# Altium integrated library NSC Interface.IntLib: 1288 symbols (part 4 of 45)
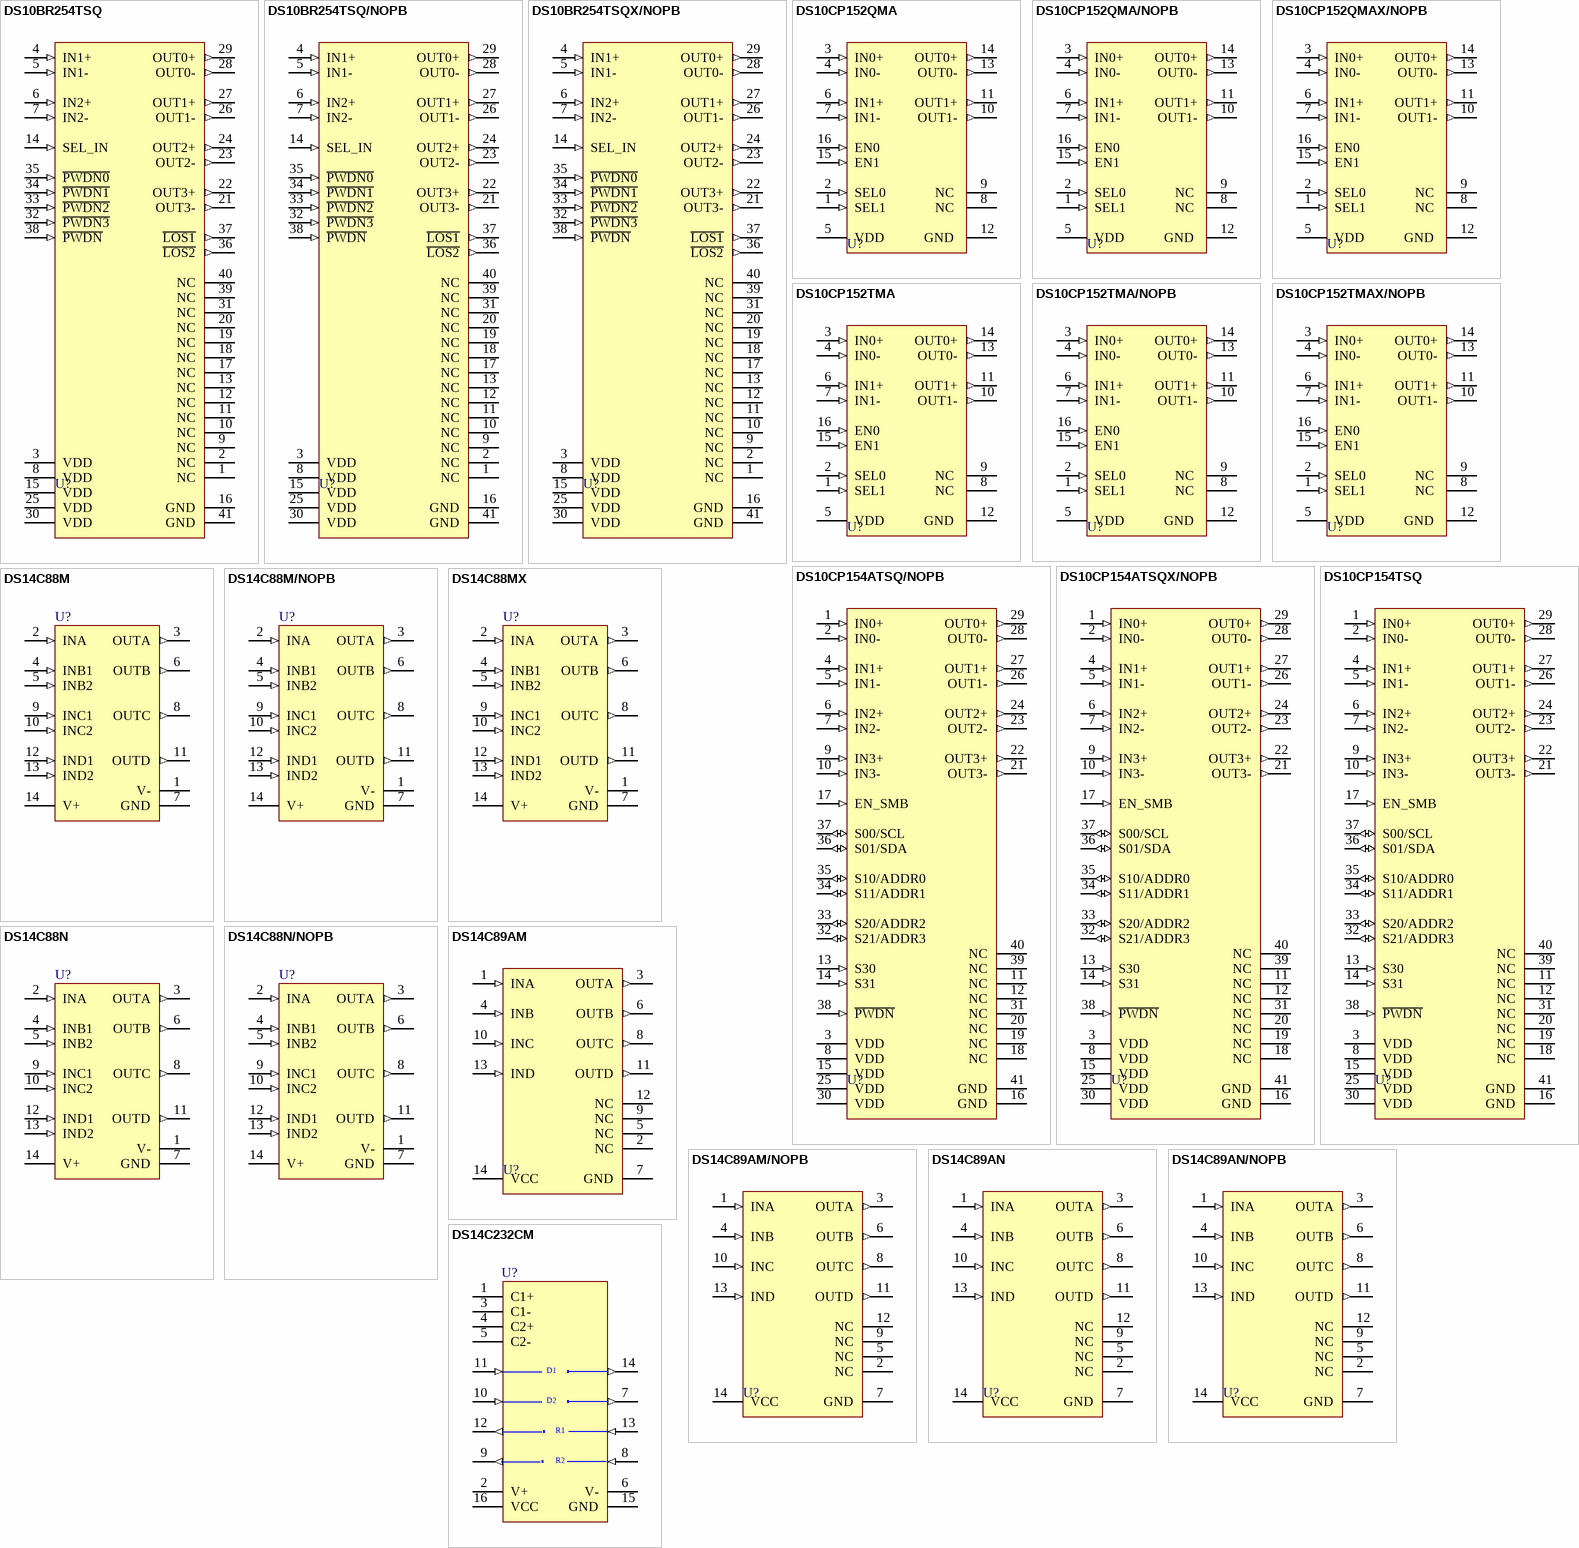
[diagram p115: symbols DS10BR254TSQ to DS14C232CM]

## DS10CP152TMA
designator U?
1.5 Gbps 2X2 LVDS Crosspoint Switch, 16-pin Narrow SOIC; PartNumber: DS10CP152TMA; Manufacturer: National Semiconductor; PackageTopMarking: NSUZXYTT*DS10CP152*TMA; PowerWise: N; CompType: Interface IC; Published: 4-Dec-2008; DatasheetVersion: Mar-2009; PackageVersion: revJ, Aug-1995; PackageReference: M16A; Publisher: Altium Limited; PackageDescription: Molded Package, SO, .150in Wide, 16 Lead; RoHS: Y; PinCount: 16; Code_JEDEC: MS-012-AC; Code_IPC: SOIC127P600-16; ComponentLink1Description: DS10CP152 Datasheet; ComponentLink1URL: http://www.national.com/ds/DS/DS10CP152.pdf; ComponentLink2Description: DS10CP152 Web Page; ComponentLink2URL: http://www.national.com/pf/DS/DS10CP152.html; ComponentLink3Description: M16A Package Page; ComponentLink3URL: http://www.national.com/packaging/folders/m16a.html
footprint M16A_N (SOIC, 16-Leads, Body 9.9x3.9mm, Pitch 1.27mm, IPC Medium Density)
footprint M16A_L (SOIC, 16-Leads, Body 9.9x3.9mm, Pitch 1.27mm, IPC High Density)
footprint M16A_M (SOIC, 16-Leads, Body 9.9x3.9mm, Pitch 1.27mm, IPC Low Density)
pins: 1 SEL1 (in), 2 SEL0 (in), 3 IN0+ (in), 4 IN0- (in), 5 VDD (power), 6 IN1+ (in), 7 IN1- (in), 8 NC , 9 NC , 10 OUT1- (out), 11 OUT1+ (out), 12 GND  (power), 13 OUT0- (out), 14 OUT0+ (out), 15 EN1 (in), 16 EN0 (in)

## DS10CP152TMA/NOPB
designator U?
1.5 Gbps 2X2 LVDS Crosspoint Switch, 16-pin Narrow SOIC, Pb-Free; PartNumber: DS10CP152TMA/NOPB; Manufacturer: National Semiconductor; PackageTopMarking: NSUZXYTTE#*DS10CP152*TMA; PowerWise: N; CompType: Interface IC; Published: 1-Mar-2010; DatasheetVersion: Mar-2009; PackageVersion: revJ, Aug-1995; PackageReference: M16A; Publisher: Altium Limited; PackageDescription: Molded Package, SO, .150in Wide, 16 Lead; Supplier 1: Digi-Key; Supplier Part Number 1: DS10CP152TMA-ND; RoHS: Y; PinCount: 16; Code_JEDEC: MS-012-AC; Code_IPC: SOIC127P600-16; ComponentLink1Description: DS10CP152 Datasheet; ComponentLink1URL: http://www.national.com/ds/DS/DS10CP152.pdf; ComponentLink2Description: DS10CP152 Web Page; ComponentLink2URL: http://www.national.com/pf/DS/DS10CP152.html; ComponentLink3Description: M16A Package Page; ComponentLink3URL: http://www.national.com/packaging/folders/m16a.html
footprint M16A_N (SOIC, 16-Leads, Body 9.9x3.9mm, Pitch 1.27mm, IPC Medium Density)
footprint M16A_L (SOIC, 16-Leads, Body 9.9x3.9mm, Pitch 1.27mm, IPC High Density)
footprint M16A_M (SOIC, 16-Leads, Body 9.9x3.9mm, Pitch 1.27mm, IPC Low Density)
pins: 1 SEL1 (in), 2 SEL0 (in), 3 IN0+ (in), 4 IN0- (in), 5 VDD (power), 6 IN1+ (in), 7 IN1- (in), 8 NC , 9 NC , 10 OUT1- (out), 11 OUT1+ (out), 12 GND  (power), 13 OUT0- (out), 14 OUT0+ (out), 15 EN1 (in), 16 EN0 (in)

## DS10CP152TMAX/NOPB
designator U?
1.5 Gbps 2X2 LVDS Crosspoint Switch, 16-pin Narrow SOIC, Pb-Free; PartNumber: DS10CP152TMAX/NOPB; Manufacturer: National Semiconductor; PackageTopMarking: NSUZXYTTE#*DS10CP152*TMA; PowerWise: N; CompType: Interface IC; Published: 1-Mar-2010; DatasheetVersion: Mar-2009; PackageVersion: revJ, Aug-1995; PackageReference: M16A; Publisher: Altium Limited; PackageDescription: Molded Package, SO, .150in Wide, 16 Lead; Supplier 1: Digi-Key; Supplier Part Number 1: DS10CP152TMAX-ND; RoHS: Y; PinCount: 16; Code_JEDEC: MS-012-AC; Code_IPC: SOIC127P600-16; ComponentLink1Description: DS10CP152 Datasheet; ComponentLink1URL: http://www.national.com/ds/DS/DS10CP152.pdf; ComponentLink2Description: DS10CP152 Web Page; ComponentLink2URL: http://www.national.com/pf/DS/DS10CP152.html; ComponentLink3Description: M16A Package Page; ComponentLink3URL: http://www.national.com/packaging/folders/m16a.html
footprint M16A_N (SOIC, 16-Leads, Body 9.9x3.9mm, Pitch 1.27mm, IPC Medium Density)
footprint M16A_L (SOIC, 16-Leads, Body 9.9x3.9mm, Pitch 1.27mm, IPC High Density)
footprint M16A_M (SOIC, 16-Leads, Body 9.9x3.9mm, Pitch 1.27mm, IPC Low Density)
pins: 1 SEL1 (in), 2 SEL0 (in), 3 IN0+ (in), 4 IN0- (in), 5 VDD (power), 6 IN1+ (in), 7 IN1- (in), 8 NC , 9 NC , 10 OUT1- (out), 11 OUT1+ (out), 12 GND  (power), 13 OUT0- (out), 14 OUT0+ (out), 15 EN1 (in), 16 EN0 (in)

## DS10CP154ATSQ/NOPB
designator U?
1.5 Gbps 4x4 LVDS Crosspoint Switch, 40-pin LLP, Pb-Free; PartNumber: DS10CP154ATSQ/NOPB; Manufacturer: National Semiconductor; PackageTopMarking: NS*UZXYTTE#*1CP154AS; PowerWise: Y; CompType: Interface IC; Published: 1-Mar-2010; DatasheetVersion: Aug-2008; PackageVersion: revB, Mar-2004; PackageReference: SQA40A; Publisher: Altium Limited; PackageDescription: LLP, Plastic, Quad, 6 x 6 x 0.8mm Body, 40 Lead, 0.5mm Pitch, No Pullback; Supplier 1: Digi-Key; Supplier Part Number 1: DS10CP154ATSQTR-ND; Supplier 2: Digi-Key; Supplier Part Number 2: DS10CP154ATSQCT-ND; Supplier 3: Digi-Key; Supplier Part Number 3: DS10CP154ATSQDKR-ND; RoHS: Y; PinCount: 40; ComponentLink1Description: DS10CP154A Datasheet; ComponentLink1URL: http://www.national.com/ds/DS/DS10CP154A.pdf; ComponentLink2Description: DS10CP154A Web Page; ComponentLink2URL: http://www.national.com/pf/DS/DS10CP154A.html; ComponentLink3Description: SQA40A Package Page; ComponentLink3URL: http://www.national.com/packaging/folders/sqa40a.html
footprint SQA40A (QFN, 40-Leads, Body 6x6mm, Pitch 0.5mm, NSC Recommended)
pins: 1 IN0+ (in), 2 IN0- (in), 3 VDD (power), 4 IN1+ (in), 5 IN1- (in), 6 IN2+ (in), 7 IN2- (in), 8 VDD (power), 9 IN3+ (in), 10 IN3- (in), 11 NC, 12 NC, 13 S30 (in), 14 S31 (in), 15 VDD (power), 16 GND (power), 17 EN_SMB (in), 18 NC, 19 NC, 20 NC, 21 OUT3- (out), 22 OUT3+ (out), 23 OUT2- (out), 24 OUT2+ (out), 25 VDD (power), 26 OUT1- (out), 27 OUT1+ (out), 28 OUT0- (out), 29 OUT0+ (out), 30 VDD (power), 31 NC, 32 S21/ADDR3 (io), 33 S20/ADDR2 (io), 34 S11/ADDR1 (io), 35 S10/ADDR0 (io), 36 S01/SDA (io), 37 S00/SCL (io), 38 ~{PWDN} (in), 39 NC, 40 NC, 41 GND (power)

## DS10CP154ATSQX/NOPB
designator U?
1.5 Gbps 4x4 LVDS Crosspoint Switch, 40-pin LLP, Pb-Free; PartNumber: DS10CP154ATSQX/NOPB; Manufacturer: National Semiconductor; PackageTopMarking: NS*UZXYTTE#*1CP154AS; PowerWise: Y; CompType: Interface IC; Published: 1-Mar-2010; DatasheetVersion: Aug-2008; PackageVersion: revB, Mar-2004; PackageReference: SQA40A; Publisher: Altium Limited; PackageDescription: LLP, Plastic, Quad, 6 x 6 x 0.8mm Body, 40 Lead, 0.5mm Pitch, No Pullback; Supplier 1: Digi-Key; Supplier Part Number 1: DS10CP154ATSQX-ND; RoHS: Y; PinCount: 40; ComponentLink1Description: DS10CP154A Datasheet; ComponentLink1URL: http://www.national.com/ds/DS/DS10CP154A.pdf; ComponentLink2Description: DS10CP154A Web Page; ComponentLink2URL: http://www.national.com/pf/DS/DS10CP154A.html; ComponentLink3Description: SQA40A Package Page; ComponentLink3URL: http://www.national.com/packaging/folders/sqa40a.html
footprint SQA40A (QFN, 40-Leads, Body 6x6mm, Pitch 0.5mm, NSC Recommended)
pins: 1 IN0+ (in), 2 IN0- (in), 3 VDD (power), 4 IN1+ (in), 5 IN1- (in), 6 IN2+ (in), 7 IN2- (in), 8 VDD (power), 9 IN3+ (in), 10 IN3- (in), 11 NC, 12 NC, 13 S30 (in), 14 S31 (in), 15 VDD (power), 16 GND (power), 17 EN_SMB (in), 18 NC, 19 NC, 20 NC, 21 OUT3- (out), 22 OUT3+ (out), 23 OUT2- (out), 24 OUT2+ (out), 25 VDD (power), 26 OUT1- (out), 27 OUT1+ (out), 28 OUT0- (out), 29 OUT0+ (out), 30 VDD (power), 31 NC, 32 S21/ADDR3 (io), 33 S20/ADDR2 (io), 34 S11/ADDR1 (io), 35 S10/ADDR0 (io), 36 S01/SDA (io), 37 S00/SCL (io), 38 ~{PWDN} (in), 39 NC, 40 NC, 41 GND (power)

## DS10CP154TSQ
designator U?
1.5 Gbps 4x4 LVDS Crosspoint Switch, 40-pin LLP; PartNumber: DS10CP154TSQ; Manufacturer: National Semiconductor; PackageTopMarking: NS*UZXYTT*1CP154SQ; PowerWise: Y; CompType: Interface IC; Published: 4-Dec-2008; DatasheetVersion: Nov-2007; PackageVersion: revB, Mar-2004; PackageReference: SQA40A; Publisher: Altium Limited; PackageDescription: LLP, Plastic, Quad, 6 x 6 x 0.8mm Body, 40 Lead, 0.5mm Pitch, No Pullback; RoHS: Y; PinCount: 40; ComponentLink1Description: DS10CP154 Web Page; ComponentLink1URL: http://www.national.com/pf/DS/DS10CP154.html; ComponentLink2Description: SQA40A Package Page; ComponentLink2URL: http://www.national.com/packaging/folders/sqa40a.html
footprint SQA40A (QFN, 40-Leads, Body 6x6mm, Pitch 0.5mm, NSC Recommended)
pins: 1 IN0+ (in), 2 IN0- (in), 3 VDD (power), 4 IN1+ (in), 5 IN1- (in), 6 IN2+ (in), 7 IN2- (in), 8 VDD (power), 9 IN3+ (in), 10 IN3- (in), 11 NC, 12 NC, 13 S30 (in), 14 S31 (in), 15 VDD (power), 16 GND (power), 17 EN_SMB (in), 18 NC, 19 NC, 20 NC, 21 OUT3- (out), 22 OUT3+ (out), 23 OUT2- (out), 24 OUT2+ (out), 25 VDD (power), 26 OUT1- (out), 27 OUT1+ (out), 28 OUT0- (out), 29 OUT0+ (out), 30 VDD (power), 31 NC, 32 S21/ADDR3 (io), 33 S20/ADDR2 (io), 34 S11/ADDR1 (io), 35 S10/ADDR0 (io), 36 S01/SDA (io), 37 S00/SCL (io), 38 ~{PWDN} (in), 39 NC, 40 NC, 41 GND (power)

## DS14C88M
designator U?
Quad CMOS Line Driver, 14-pin Narrow SOIC; PartNumber: DS14C88M; Manufacturer: National Semiconductor; PackageTopMarking: NSUZXYTTE#*DS14C88M; PowerWise: N; CompType: Interface IC; Published: 4-Dec-2008; DatasheetVersion: May-1998; PackageVersion: revJ, Jan-1996; PackageReference: M14A; Publisher: Altium Limited; PackageDescription: Molded Package S.O., .150in Wide, 14 Lead; Supplier 1: Farnell; Supplier Part Number 1: 9487824; RoHS: N; PinCount: 14; Code_JEDEC: MS-012AB; Code_IPC: SOIC127P600-14; ComponentLink1Description: DS14C88 Datasheet; ComponentLink1URL: http://www.national.com/ds/DS/DS14C88.pdf; ComponentLink2Description: DS14C88 Web Page; ComponentLink2URL: http://www.national.com/pf/DS/DS14C88.html; ComponentLink3Description: M14A Package Page; ComponentLink3URL: http://www.national.com/packaging/folders/m14a.html
footprint M14A_N (SOIC, 14-Leads, Body 8.6x3.9mm, Pitch 1.27mm, IPC Medium Density)
footprint M14A_L (SOIC, 14-Leads, Body 8.6x3.9mm, Pitch 1.27mm, IPC High Density)
footprint M14A_M (SOIC, 14-Leads, Body 8.6x3.9mm, Pitch 1.27mm, IPC Low Density)
pins: 1 V- (power), 2 INA (in), 3 OUTA (out), 4 INB1 (in), 5 INB2 (in), 6 OUTB (out), 7 GND (power), 8 OUTC (out), 9 INC1 (in), 10 INC2 (in), 11 OUTD (out), 12 IND1 (in), 13 IND2 (in), 14 V+ (power)

## DS14C88M/NOPB
designator U?
Quad CMOS Line Driver, 14-pin Narrow SOIC, Pb-Free; PartNumber: DS14C88M/NOPB; Manufacturer: National Semiconductor; PackageTopMarking: NSUZXYTTE#*DS14C88M; PowerWise: N; CompType: Interface IC; Published: 1-Mar-2010; DatasheetVersion: May-1998; PackageVersion: revJ, Jan-1996; PackageReference: M14A; Publisher: Altium Limited; PackageDescription: Molded Package S.O., .150in Wide, 14 Lead; Supplier 1: Digi-Key; Supplier Part Number 1: DS14C88M-ND; Supplier 2: Farnell; Supplier Part Number 2: 1246824; RoHS: Y; PinCount: 14; Code_JEDEC: MS-012AB; Code_IPC: SOIC127P600-14; ComponentLink1Description: DS14C88 Datasheet; ComponentLink1URL: http://www.national.com/ds/DS/DS14C88.pdf; ComponentLink2Description: DS14C88 Web Page; ComponentLink2URL: http://www.national.com/pf/DS/DS14C88.html; ComponentLink3Description: M14A Package Page; ComponentLink3URL: http://www.national.com/packaging/folders/m14a.html
footprint M14A_N (SOIC, 14-Leads, Body 8.6x3.9mm, Pitch 1.27mm, IPC Medium Density)
footprint M14A_L (SOIC, 14-Leads, Body 8.6x3.9mm, Pitch 1.27mm, IPC High Density)
footprint M14A_M (SOIC, 14-Leads, Body 8.6x3.9mm, Pitch 1.27mm, IPC Low Density)
pins: 1 V- (power), 2 INA (in), 3 OUTA (out), 4 INB1 (in), 5 INB2 (in), 6 OUTB (out), 7 GND (power), 8 OUTC (out), 9 INC1 (in), 10 INC2 (in), 11 OUTD (out), 12 IND1 (in), 13 IND2 (in), 14 V+ (power)

## DS14C88MX
designator U?
Quad CMOS Line Driver, 14-pin Narrow SOIC; PartNumber: DS14C88MX; Manufacturer: National Semiconductor; PackageTopMarking: NSUZXYTTE#*DS14C88M; PowerWise: N; CompType: Interface IC; Published: 1-Mar-2010; DatasheetVersion: May-1998; PackageVersion: revJ, Jan-1996; PackageReference: M14A; Publisher: Altium Limited; PackageDescription: Molded Package S.O., .150in Wide, 14 Lead; RoHS: N; PinCount: 14; Code_JEDEC: MS-012AB; Code_IPC: SOIC127P600-14; ComponentLink1Description: DS14C88 Datasheet; ComponentLink1URL: http://www.national.com/ds/DS/DS14C88.pdf; ComponentLink2Description: DS14C88 Web Page; ComponentLink2URL: http://www.national.com/pf/DS/DS14C88.html; ComponentLink3Description: M14A Package Page; ComponentLink3URL: http://www.national.com/packaging/folders/m14a.html
footprint M14A_N (SOIC, 14-Leads, Body 8.6x3.9mm, Pitch 1.27mm, IPC Medium Density)
footprint M14A_L (SOIC, 14-Leads, Body 8.6x3.9mm, Pitch 1.27mm, IPC High Density)
footprint M14A_M (SOIC, 14-Leads, Body 8.6x3.9mm, Pitch 1.27mm, IPC Low Density)
pins: 1 V- (power), 2 INA (in), 3 OUTA (out), 4 INB1 (in), 5 INB2 (in), 6 OUTB (out), 7 GND (power), 8 OUTC (out), 9 INC1 (in), 10 INC2 (in), 11 OUTD (out), 12 IND1 (in), 13 IND2 (in), 14 V+ (power)

## DS14C88N
designator U?
Quad CMOS Line Driver, 14-pin MDIP; PartNumber: DS14C88N; Manufacturer: National Semiconductor; PackageTopMarking: NSUZXYYTTE#*DS14C88N; PowerWise: N; CompType: Interface IC; Published: 4-Dec-2008; DatasheetVersion: May-1998; PackageVersion: revG, May-2006; PackageReference: N14A; Publisher: Altium Limited; PackageDescription: MDIP, .750 x .250 x.130in, 14 Lead, .100in Pitch; Supplier 1: Farnell; Supplier Part Number 1: 9487832; RoHS: N; PinCount: 14; Code_JEDEC: MS-001-AA; ComponentLink1Description: DS14C88 Datasheet; ComponentLink1URL: http://www.national.com/ds/DS/DS14C88.pdf; ComponentLink2Description: DS14C88 Web Page; ComponentLink2URL: http://www.national.com/pf/DS/DS14C88.html; ComponentLink3Description: N14A Package Page; ComponentLink3URL: http://www.national.com/packaging/folders/n14a.html
footprint N14A (DIP, 14-Leads, Row Spacing 7.62mm, Pitch 2.54mm, Body 19.56x6.35mm)
pins: 1 V- (power), 2 INA (in), 3 OUTA (out), 4 INB1 (in), 5 INB2 (in), 6 OUTB (out), 7 GND (power), 8 OUTC (out), 9 INC1 (in), 10 INC2 (in), 11 OUTD (out), 12 IND1 (in), 13 IND2 (in), 14 V+ (power)

## DS14C88N/NOPB
designator U?
Quad CMOS Line Driver, 14-pin MDIP, Pb-Free; PartNumber: DS14C88N/NOPB; Manufacturer: National Semiconductor; PackageTopMarking: NSUZXYYTTE#*DS14C88N; PowerWise: N; CompType: Interface IC; Published: 1-Mar-2010; DatasheetVersion: May-1998; PackageVersion: revG, May-2006; PackageReference: N14A; Publisher: Altium Limited; PackageDescription: MDIP, .750 x .250 x.130in, 14 Lead, .100in Pitch; Supplier 1: Digi-Key; Supplier Part Number 1: DS14C88N-ND; Supplier 2: Farnell; Supplier Part Number 2: 1184951; RoHS: Y; PinCount: 14; Code_JEDEC: MS-001-AA; ComponentLink1Description: DS14C88 Datasheet; ComponentLink1URL: http://www.national.com/ds/DS/DS14C88.pdf; ComponentLink2Description: DS14C88 Web Page; ComponentLink2URL: http://www.national.com/pf/DS/DS14C88.html; ComponentLink3Description: N14A Package Page; ComponentLink3URL: http://www.national.com/packaging/folders/n14a.html
footprint N14A (DIP, 14-Leads, Row Spacing 7.62mm, Pitch 2.54mm, Body 19.56x6.35mm)
pins: 1 V- (power), 2 INA (in), 3 OUTA (out), 4 INB1 (in), 5 INB2 (in), 6 OUTB (out), 7 GND (power), 8 OUTC (out), 9 INC1 (in), 10 INC2 (in), 11 OUTD (out), 12 IND1 (in), 13 IND2 (in), 14 V+ (power)

## DS14C89AM
designator U?
Quad CMOS Receiver, 14-pin Narrow SOIC; PartNumber: DS14C89AM; Manufacturer: National Semiconductor; PackageTopMarking: NSUZXYTTE#*DS14C89AM; PowerWise: N; CompType: Interface IC; Published: 4-Dec-2008; DatasheetVersion: May-1998; PackageVersion: revJ, Jan-1996; PackageReference: M14A; Publisher: Altium Limited; PackageDescription: Molded Package S.O., .150in Wide, 14 Lead; Supplier 1: Farnell; Supplier Part Number 1: 9487921; RoHS: N; PinCount: 14; Code_JEDEC: MS-012AB; Code_IPC: SOIC127P600-14; ComponentLink1Description: DS14C89A Datasheet; ComponentLink1URL: http://www.national.com/ds/DS/DS14C89A.pdf; ComponentLink2Description: DS14C89A Web Page; ComponentLink2URL: http://www.national.com/pf/DS/DS14C89A.html; ComponentLink3Description: M14A Package Page; ComponentLink3URL: http://www.national.com/packaging/folders/m14a.html
footprint M14A_N (SOIC, 14-Leads, Body 8.6x3.9mm, Pitch 1.27mm, IPC Medium Density)
footprint M14A_L (SOIC, 14-Leads, Body 8.6x3.9mm, Pitch 1.27mm, IPC High Density)
footprint M14A_M (SOIC, 14-Leads, Body 8.6x3.9mm, Pitch 1.27mm, IPC Low Density)
pins: 1 INA (in), 2 NC, 3 OUTA (out), 4 INB (in), 5 NC, 6 OUTB (out), 7 GND (power), 8 OUTC (out), 9 NC, 10 INC (in), 11 OUTD (out), 12 NC, 13 IND (in), 14 VCC (power)

## DS14C89AM/NOPB
designator U?
Quad CMOS Receiver, 14-pin Narrow SOIC, Pb-Free; PartNumber: DS14C89AM/NOPB; Manufacturer: National Semiconductor; PackageTopMarking: NSUZXYTTE#*DS14C89AM; PowerWise: N; CompType: Interface IC; Published: 1-Mar-2010; DatasheetVersion: May-1998; PackageVersion: revJ, Jan-1996; PackageReference: M14A; Publisher: Altium Limited; PackageDescription: Molded Package S.O., .150in Wide, 14 Lead; Supplier 1: Digi-Key; Supplier Part Number 1: DS14C89AM-ND; Supplier 2: Farnell; Supplier Part Number 2: 1246825; RoHS: Y; PinCount: 14; Code_JEDEC: MS-012AB; Code_IPC: SOIC127P600-14; ComponentLink1Description: DS14C89A Datasheet; ComponentLink1URL: http://www.national.com/ds/DS/DS14C89A.pdf; ComponentLink2Description: DS14C89A Web Page; ComponentLink2URL: http://www.national.com/pf/DS/DS14C89A.html; ComponentLink3Description: M14A Package Page; ComponentLink3URL: http://www.national.com/packaging/folders/m14a.html
footprint M14A_N (SOIC, 14-Leads, Body 8.6x3.9mm, Pitch 1.27mm, IPC Medium Density)
footprint M14A_L (SOIC, 14-Leads, Body 8.6x3.9mm, Pitch 1.27mm, IPC High Density)
footprint M14A_M (SOIC, 14-Leads, Body 8.6x3.9mm, Pitch 1.27mm, IPC Low Density)
pins: 1 INA (in), 2 NC, 3 OUTA (out), 4 INB (in), 5 NC, 6 OUTB (out), 7 GND (power), 8 OUTC (out), 9 NC, 10 INC (in), 11 OUTD (out), 12 NC, 13 IND (in), 14 VCC (power)

## DS14C89AN
designator U?
Quad CMOS Receiver, 14-pin MDIP; PartNumber: DS14C89AN; Manufacturer: National Semiconductor; PackageTopMarking: NSUZXYYTTE#*DS14C89AN; PowerWise: N; CompType: Interface IC; Published: 4-Dec-2008; DatasheetVersion: May-1998; PackageVersion: revG, May-2006; PackageReference: N14A; Publisher: Altium Limited; PackageDescription: MDIP, .750 x .250 x.130in, 14 Lead, .100in Pitch; Supplier 1: Farnell; Supplier Part Number 1: 9487930; RoHS: N; PinCount: 14; Code_JEDEC: MS-001-AA; ComponentLink1Description: DS14C89A Datasheet; ComponentLink1URL: http://www.national.com/ds/DS/DS14C89A.pdf; ComponentLink2Description: DS14C89A Web Page; ComponentLink2URL: http://www.national.com/pf/DS/DS14C89A.html; ComponentLink3Description: N14A Package Page; ComponentLink3URL: http://www.national.com/packaging/folders/n14a.html
footprint N14A (DIP, 14-Leads, Row Spacing 7.62mm, Pitch 2.54mm, Body 19.56x6.35mm)
pins: 1 INA (in), 2 NC, 3 OUTA (out), 4 INB (in), 5 NC, 6 OUTB (out), 7 GND (power), 8 OUTC (out), 9 NC, 10 INC (in), 11 OUTD (out), 12 NC, 13 IND (in), 14 VCC (power)

## DS14C89AN/NOPB
designator U?
Quad CMOS Receiver, 14-pin MDIP, Pb-Free; PartNumber: DS14C89AN/NOPB; Manufacturer: National Semiconductor; PackageTopMarking: NSUZXYYTTE#*DS14C89AN; PowerWise: N; CompType: Interface IC; Published: 1-Mar-2010; DatasheetVersion: May-1998; PackageVersion: revG, May-2006; PackageReference: N14A; Publisher: Altium Limited; PackageDescription: MDIP, .750 x .250 x.130in, 14 Lead, .100in Pitch; Supplier 1: Digi-Key; Supplier Part Number 1: DS14C89AN-ND; Supplier 2: Farnell; Supplier Part Number 2: 1184952; RoHS: Y; PinCount: 14; Code_JEDEC: MS-001-AA; ComponentLink1Description: DS14C89A Datasheet; ComponentLink1URL: http://www.national.com/ds/DS/DS14C89A.pdf; ComponentLink2Description: DS14C89A Web Page; ComponentLink2URL: http://www.national.com/pf/DS/DS14C89A.html; ComponentLink3Description: N14A Package Page; ComponentLink3URL: http://www.national.com/packaging/folders/n14a.html
footprint N14A (DIP, 14-Leads, Row Spacing 7.62mm, Pitch 2.54mm, Body 19.56x6.35mm)
pins: 1 INA (in), 2 NC, 3 OUTA (out), 4 INB (in), 5 NC, 6 OUTB (out), 7 GND (power), 8 OUTC (out), 9 NC, 10 INC (in), 11 OUTD (out), 12 NC, 13 IND (in), 14 VCC (power)

## DS14C232CM
designator U?
Low-Power +5V Powered TIA/EIA-232 Dual Driver/Receiver, 16-pin Narrow SOIC; PartNumber: DS14C232CM; Manufacturer: National Semiconductor; PackageTopMarking: NSUZXYTTE#*DS14C232CM; PowerWise: N; CompType: Interface IC; Published: 4-Dec-2008; DatasheetVersion: Oct-1999; PackageVersion: revJ, Aug-1995; PackageReference: M16A; Publisher: Altium Limited; PackageDescription: Molded Package, SO, .150in Wide, 16 Lead; Supplier 1: Farnell; Supplier Part Number 1: 9490124; RoHS: N; PinCount: 16; Code_JEDEC: MS-012-AC; Code_IPC: SOIC127P600-16; ComponentLink1Description: DS14C232 Datasheet; ComponentLink1URL: http://www.national.com/ds/DS/DS14C232.pdf; ComponentLink2Description: DS14C232 Web Page; ComponentLink2URL: http://www.national.com/pf/DS/DS14C232.html; ComponentLink3Description: M16A Package Page; ComponentLink3URL: http://www.national.com/packaging/folders/m16a.html
footprint M16A_N (SOIC, 16-Leads, Body 9.9x3.9mm, Pitch 1.27mm, IPC Medium Density)
footprint M16A_L (SOIC, 16-Leads, Body 9.9x3.9mm, Pitch 1.27mm, IPC High Density)
footprint M16A_M (SOIC, 16-Leads, Body 9.9x3.9mm, Pitch 1.27mm, IPC Low Density)
pins: 1 C1+, 2 V+ (power), 3 C1-, 4 C2+, 5 C2-, 6 V- (power), 7 DOUT (out), 8 RIN (in), 9 ROUT (out), 10 DIN (in), 11 DIN (in), 12 ROUT (out), 13 RIN (in), 14 DOUT (out), 15 GND (power), 16 VCC (power)
text: D1; D2; R1; R2

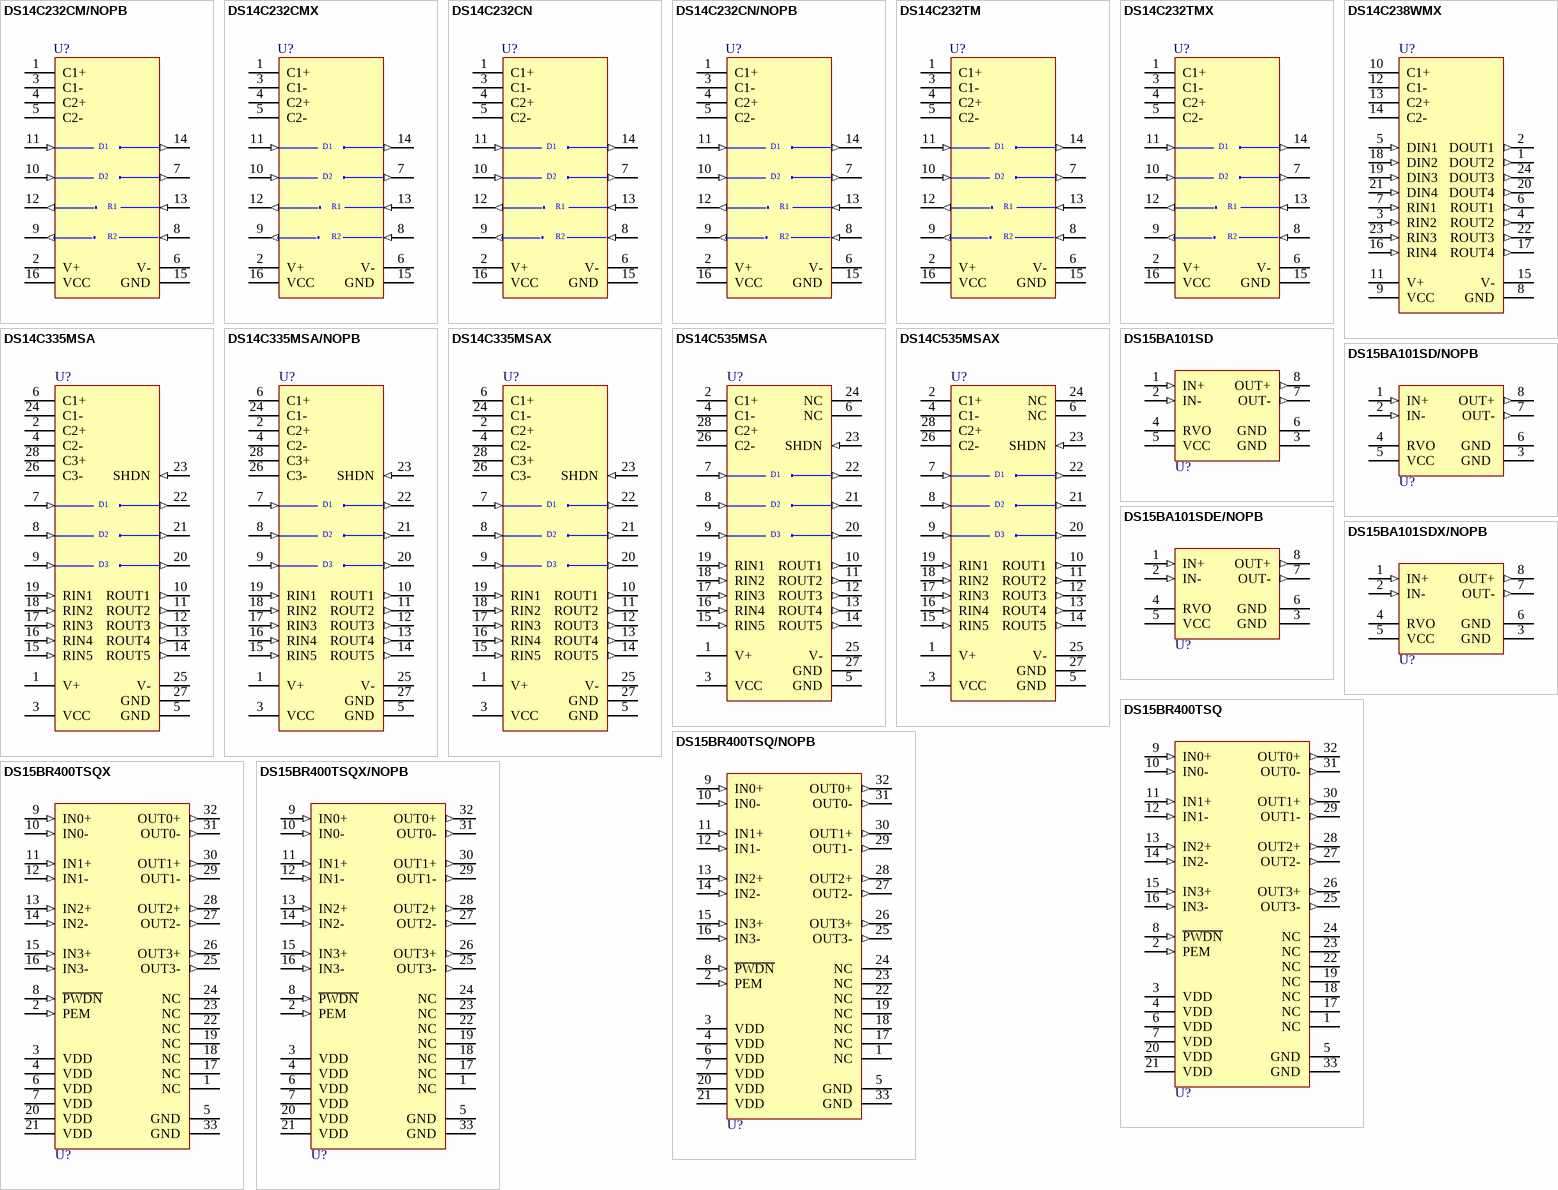
[diagram p13: symbols DS14C232CM/NOPB to DS15BR400TSQX/NOPB]

## DS14C232CM/NOPB
designator U?
Low Power +5V Powered TIA/EIA-232 Dual Driver/Receiver, 16-pin Narrow SOIC, Pb-Free; PartNumber: DS14C232CM/NOPB; Manufacturer: National Semiconductor; PackageTopMarking: NSUZXYTTE#*DS14C232CM; PowerWise: N; CompType: Interface IC; Published: 1-Mar-2010; DatasheetVersion: Oct-1999; PackageVersion: revJ, Aug-1995; PackageReference: M16A; Publisher: Altium Limited; PackageDescription: Molded Package, SO, .150in Wide, 16 Lead; Supplier 1: Digi-Key; Supplier Part Number 1: DS14C232CM-ND; Supplier 2: Farnell; Supplier Part Number 2: 1213575; RoHS: Y; PinCount: 16; Code_JEDEC: MS-012-AC; Code_IPC: SOIC127P600-16; ComponentLink1Description: DS14C232 Datasheet; ComponentLink1URL: http://www.national.com/ds/DS/DS14C232.pdf; ComponentLink2Description: DS14C232 Web Page; ComponentLink2URL: http://www.national.com/pf/DS/DS14C232.html; ComponentLink3Description: M16A Package Page; ComponentLink3URL: http://www.national.com/packaging/folders/m16a.html
footprint M16A_N (SOIC, 16-Leads, Body 9.9x3.9mm, Pitch 1.27mm, IPC Medium Density)
footprint M16A_L (SOIC, 16-Leads, Body 9.9x3.9mm, Pitch 1.27mm, IPC High Density)
footprint M16A_M (SOIC, 16-Leads, Body 9.9x3.9mm, Pitch 1.27mm, IPC Low Density)
pins: 1 C1+, 2 V+ (power), 3 C1-, 4 C2+, 5 C2-, 6 V- (power), 7 DOUT (out), 8 RIN (in), 9 ROUT (out), 10 DIN (in), 11 DIN (in), 12 ROUT (out), 13 RIN (in), 14 DOUT (out), 15 GND (power), 16 VCC (power)
text: D1; D2; R1; R2

## DS14C232CMX
designator U?
Low Power +5V Powered TIA/EIA-232 Dual Driver/Receiver, 16-pin Narrow SOIC; PartNumber: DS14C232CMX; Manufacturer: National Semiconductor; PackageTopMarking: NSUZXYTTE#*DS14C232CM; PowerWise: N; CompType: Interface IC; Published: 1-Mar-2010; DatasheetVersion: Oct-1999; PackageVersion: revJ, Aug-1995; PackageReference: M16A; Publisher: Altium Limited; PackageDescription: Molded Package, SO, .150in Wide, 16 Lead; RoHS: N; PinCount: 16; Code_JEDEC: MS-012-AC; Code_IPC: SOIC127P600-16; ComponentLink1Description: DS14C232 Datasheet; ComponentLink1URL: http://www.national.com/ds/DS/DS14C232.pdf; ComponentLink2Description: DS14C232 Web Page; ComponentLink2URL: http://www.national.com/pf/DS/DS14C232.html; ComponentLink3Description: M16A Package Page; ComponentLink3URL: http://www.national.com/packaging/folders/m16a.html
footprint M16A_N (SOIC, 16-Leads, Body 9.9x3.9mm, Pitch 1.27mm, IPC Medium Density)
footprint M16A_L (SOIC, 16-Leads, Body 9.9x3.9mm, Pitch 1.27mm, IPC High Density)
footprint M16A_M (SOIC, 16-Leads, Body 9.9x3.9mm, Pitch 1.27mm, IPC Low Density)
pins: 1 C1+, 2 V+ (power), 3 C1-, 4 C2+, 5 C2-, 6 V- (power), 7 DOUT (out), 8 RIN (in), 9 ROUT (out), 10 DIN (in), 11 DIN (in), 12 ROUT (out), 13 RIN (in), 14 DOUT (out), 15 GND (power), 16 VCC (power)
text: D1; D2; R1; R2

## DS14C232CN
designator U?
Low-Power +5V Powered TIA/EIA-232 Dual Driver/Receiver, 16-pin MDIP; PartNumber: DS14C232CN; Manufacturer: National Semiconductor; PackageTopMarking: NSUZXYYTTE#*DS14C232CN; PowerWise: N; CompType: Interface IC; Published: 4-Dec-2008; DatasheetVersion: Oct-1999; PackageVersion: revG, May-2006; PackageReference: N16E; Publisher: Altium Limited; PackageDescription: MDIP, .750 x .250 x .130in, 16 Lead, .100in Pitch; Supplier 1: Farnell; Supplier Part Number 1: 9490116; RoHS: N; PinCount: 16; Code_JEDEC: MS-001-BB; ComponentLink1Description: DS14C232 Datasheet; ComponentLink1URL: http://www.national.com/ds/DS/DS14C232.pdf; ComponentLink2Description: DS14C232 Web Page; ComponentLink2URL: http://www.national.com/pf/DS/DS14C232.html; ComponentLink3Description: N16E Package Page; ComponentLink3URL: http://www.national.com/packaging/folders/n16e.html
footprint N16E (DIP, 16-Leads, Row Spacing 7.62mm, Pitch 2.54mm, Body 19.3x6.35mm)
pins: 1 C1+, 2 V+ (power), 3 C1-, 4 C2+, 5 C2-, 6 V- (power), 7 DOUT (out), 8 RIN (in), 9 ROUT (out), 10 DIN (in), 11 DIN (in), 12 ROUT (out), 13 RIN (in), 14 DOUT (out), 15 GND (power), 16 VCC (power)
text: D1; D2; R1; R2

## DS14C232CN/NOPB
designator U?
Low Power +5V Powered TIA/EIA-232 Dual Driver/Receiver, 16-pin MDIP, Pb-Free; PartNumber: DS14C232CN/NOPB; Manufacturer: National Semiconductor; PackageTopMarking: NSUZXYYTTE#*DS14C232CN; PowerWise: N; CompType: Interface IC; Published: 1-Mar-2010; DatasheetVersion: Oct-1999; PackageVersion: revG, May-2006; PackageReference: N16E; Publisher: Altium Limited; PackageDescription: MDIP, .750 x .250 x .130in, 16 Lead, .100in Pitch; Supplier 1: Digi-Key; Supplier Part Number 1: DS14C232CN-ND; Supplier 2: Farnell; Supplier Part Number 2: 1184950; RoHS: Y; PinCount: 16; Code_JEDEC: MS-001-BB; ComponentLink1Description: DS14C232 Datasheet; ComponentLink1URL: http://www.national.com/ds/DS/DS14C232.pdf; ComponentLink2Description: DS14C232 Web Page; ComponentLink2URL: http://www.national.com/pf/DS/DS14C232.html; ComponentLink3Description: N16E Package Page; ComponentLink3URL: http://www.national.com/packaging/folders/n16e.html
footprint N16E (DIP, 16-Leads, Row Spacing 7.62mm, Pitch 2.54mm, Body 19.3x6.35mm)
pins: 1 C1+, 2 V+ (power), 3 C1-, 4 C2+, 5 C2-, 6 V- (power), 7 DOUT (out), 8 RIN (in), 9 ROUT (out), 10 DIN (in), 11 DIN (in), 12 ROUT (out), 13 RIN (in), 14 DOUT (out), 15 GND (power), 16 VCC (power)
text: D1; D2; R1; R2

## DS14C232TM
designator U?
Low-Power +5V Powered TIA/EIA-232 Dual Driver/Receiver, 16-pin Narrow SOIC; PartNumber: DS14C232TM; Manufacturer: National Semiconductor; PackageTopMarking: NSUZXYTTE#*DS14C232TM; PowerWise: N; CompType: Interface IC; Published: 4-Dec-2008; DatasheetVersion: Oct-1999; PackageVersion: revJ, Aug-1995; PackageReference: M16A; Publisher: Altium Limited; PackageDescription: Molded Package, SO, .150in Wide, 16 Lead; Supplier 1: Farnell; Supplier Part Number 1: 4403939; RoHS: N; PinCount: 16; Code_JEDEC: MS-012-AC; Code_IPC: SOIC127P600-16; ComponentLink1Description: DS14C232 Datasheet; ComponentLink1URL: http://www.national.com/ds/DS/DS14C232.pdf; ComponentLink2Description: DS14C232 Web Page; ComponentLink2URL: http://www.national.com/pf/DS/DS14C232.html; ComponentLink3Description: M16A Package Page; ComponentLink3URL: http://www.national.com/packaging/folders/m16a.html
footprint M16A_N (SOIC, 16-Leads, Body 9.9x3.9mm, Pitch 1.27mm, IPC Medium Density)
footprint M16A_L (SOIC, 16-Leads, Body 9.9x3.9mm, Pitch 1.27mm, IPC High Density)
footprint M16A_M (SOIC, 16-Leads, Body 9.9x3.9mm, Pitch 1.27mm, IPC Low Density)
pins: 1 C1+, 2 V+ (power), 3 C1-, 4 C2+, 5 C2-, 6 V- (power), 7 DOUT (out), 8 RIN (in), 9 ROUT (out), 10 DIN (in), 11 DIN (in), 12 ROUT (out), 13 RIN (in), 14 DOUT (out), 15 GND (power), 16 VCC (power)
text: D1; D2; R1; R2

## DS14C232TMX
designator U?
Low Power +5V Powered TIA/EIA-232 Dual Driver/Receiver, 16-pin Narrow SOIC; PartNumber: DS14C232TMX; Manufacturer: National Semiconductor; PackageTopMarking: NSUZXYTTE#*DS14C232TM; PowerWise: N; CompType: Interface IC; Published: 1-Mar-2010; DatasheetVersion: Oct-1999; PackageVersion: revJ, Aug-1995; PackageReference: M16A; Publisher: Altium Limited; PackageDescription: Molded Package, SO, .150in Wide, 16 Lead; RoHS: N; PinCount: 16; Code_JEDEC: MS-012-AC; Code_IPC: SOIC127P600-16; ComponentLink1Description: DS14C232 Datasheet; ComponentLink1URL: http://www.national.com/ds/DS/DS14C232.pdf; ComponentLink2Description: DS14C232 Web Page; ComponentLink2URL: http://www.national.com/pf/DS/DS14C232.html; ComponentLink3Description: M16A Package Page; ComponentLink3URL: http://www.national.com/packaging/folders/m16a.html
footprint M16A_N (SOIC, 16-Leads, Body 9.9x3.9mm, Pitch 1.27mm, IPC Medium Density)
footprint M16A_L (SOIC, 16-Leads, Body 9.9x3.9mm, Pitch 1.27mm, IPC High Density)
footprint M16A_M (SOIC, 16-Leads, Body 9.9x3.9mm, Pitch 1.27mm, IPC Low Density)
pins: 1 C1+, 2 V+ (power), 3 C1-, 4 C2+, 5 C2-, 6 V- (power), 7 DOUT (out), 8 RIN (in), 9 ROUT (out), 10 DIN (in), 11 DIN (in), 12 ROUT (out), 13 RIN (in), 14 DOUT (out), 15 GND (power), 16 VCC (power)
text: D1; D2; R1; R2

## DS14C238WMX
designator U?
Single Supply TIA/EIA-232 4x4 Driver/Receiver, 24-pin Wide SOIC; PartNumber: DS14C238WMX; Manufacturer: National Semiconductor; PackageTopMarking: NSUZXYTT*DS14C238WM; PowerWise: N; CompType: Interface IC; Published: 1-Mar-2010; DatasheetVersion: Jul-2002; PackageVersion: revF, Apr-1990; PackageReference: M24B; Publisher: Altium Limited; PackageDescription: Molded Package, S.O., .300in Wide, 24 Lead; RoHS: N; PinCount: 24; ComponentLink1Description: DS14C238 Datasheet; ComponentLink1URL: http://www.national.com/ds/DS/DS14C238.pdf; ComponentLink2Description: DS14C238 Web Page; ComponentLink2URL: http://www.national.com/pf/DS/DS14C238.html; ComponentLink3Description: M24B Package Page; ComponentLink3URL: http://www.national.com/packaging/folders/m24b.html
footprint M24B_N (SOIC, 24-Leads, Body 15.4x7.5mm, Pitch 1.27mm, IPC Medium Density)
footprint M24B_L (SOIC, 24-Leads, Body 15.4x7.5mm, Pitch 1.27mm, IPC High Density)
footprint M24B_M (SOIC, 24-Leads, Body 15.4x7.5mm, Pitch 1.27mm, IPC Low Density)
pins: 1 DOUT2 (out), 2 DOUT1 (out), 3 RIN2 (in), 4 ROUT2 (out), 5 DIN1 (in), 6 ROUT1 (out), 7 RIN1 (in), 8 GND (power), 9 VCC (power), 10 C1+, 11 V+ (power), 12 C1-, 13 C2+, 14 C2-, 15 V- (power), 16 RIN4 (in), 17 ROUT4 (out), 18 DIN2 (in), 19 DIN3 (in), 20 DOUT4 (out), 21 DIN4 (in), 22 ROUT3 (out), 23 RIN3 (in), 24 DOUT3 (out)

## DS14C335MSA
designator U?
+3.3V Supply TIA/EIA-232 3x5 Driver/Receiver, 28-pin SSOP-EIAJ; PartNumber: DS14C335MSA; Manufacturer: National Semiconductor; PackageTopMarking: NSUZXYTTE#*DS14C335*MSA; PowerWise: N; CompType: Interface IC; Published: 4-Dec-2008; DatasheetVersion: Mar-2000; PackageVersion: revC, Oct-2009; PackageReference: MSA28; Publisher: Altium Limited; PackageDescription: Molded SSOP, 5.3mm Body Width, 0.65mm Pitch, EIAJ, Type II, 28 Lead; RoHS: N; PinCount: 28; Code_IPC: SOP65P780-28; ComponentLink1Description: DS14C335 Datasheet; ComponentLink1URL: http://www.national.com/ds/DS/DS14C335.pdf; ComponentLink2Description: DS14C335 Web Page; ComponentLink2URL: http://www.national.com/pf/DS/DS14C335.html; ComponentLink3Description: MSA28 Package Page; ComponentLink3URL: http://www.national.com/packaging/folders/msa28.html
footprint MSA28_N (SOP, 28-Leads, Body 10.2x5.3mm, Pitch 0.65mm, IPC Medium Density)
footprint MSA28_L (SOP, 28-Leads, Body 10.2x5.3mm, Pitch 0.65mm, IPC High Density)
footprint MSA28_M (SOP, 28-Leads, Body 10.2x5.3mm, Pitch 0.65mm, IPC Low Density)
pins: 1 V+ (power), 2 C2+, 3 VCC (power), 4 C2-, 5 GND (power), 6 C1+, 7 DIN (in), 8 DIN (in), 9 DIN (in), 10 ROUT1 (out), 11 ROUT2 (out), 12 ROUT3 (out), 13 ROUT4 (out), 14 ROUT5 (out), 15 RIN5 (in), 16 RIN4 (in), 17 RIN3 (in), 18 RIN2 (in), 19 RIN1 (in), 20 DOUT (out), 21 DOUT (out), 22 DOUT (out), 23 SHDN (in), 24 C1-, 25 V- (power), 26 C3-, 27 GND (power), 28 C3+
text: D1; D2; D3

## DS14C335MSA/NOPB
designator U?
+3.3V Supply TIA/EIA - 232 3X5 Driver/Receiver, 28-pin SSOP-EIAJ, Pb-Free; PartNumber: DS14C335MSA/NOPB; Manufacturer: National Semiconductor; PackageTopMarking: NSUZXYTTE#*DS14C335*MSA; PowerWise: N; CompType: Interface IC; Published: 1-Mar-2010; DatasheetVersion: Mar-2000; PackageVersion: revC, Oct-2009; PackageReference: MSA28; Publisher: Altium Limited; PackageDescription: Molded SSOP, 5.3mm Body Width, 0.65mm Pitch, EIAJ, Type II, 28 Lead; Supplier 1: Digi-Key; Supplier Part Number 1: DS14C335MSA-ND; Supplier 2: Farnell; Supplier Part Number 2: 1685313; RoHS: Y; PinCount: 28; Code_IPC: SOP65P780-28; ComponentLink1Description: DS14C335 Datasheet; ComponentLink1URL: http://www.national.com/ds/DS/DS14C335.pdf; ComponentLink2Description: DS14C335 Web Page; ComponentLink2URL: http://www.national.com/pf/DS/DS14C335.html; ComponentLink3Description: MSA28 Package Page; ComponentLink3URL: http://www.national.com/packaging/folders/msa28.html
footprint MSA28_N (SOP, 28-Leads, Body 10.2x5.3mm, Pitch 0.65mm, IPC Medium Density)
footprint MSA28_L (SOP, 28-Leads, Body 10.2x5.3mm, Pitch 0.65mm, IPC High Density)
footprint MSA28_M (SOP, 28-Leads, Body 10.2x5.3mm, Pitch 0.65mm, IPC Low Density)
pins: 1 V+ (power), 2 C2+, 3 VCC (power), 4 C2-, 5 GND (power), 6 C1+, 7 DIN (in), 8 DIN (in), 9 DIN (in), 10 ROUT1 (out), 11 ROUT2 (out), 12 ROUT3 (out), 13 ROUT4 (out), 14 ROUT5 (out), 15 RIN5 (in), 16 RIN4 (in), 17 RIN3 (in), 18 RIN2 (in), 19 RIN1 (in), 20 DOUT (out), 21 DOUT (out), 22 DOUT (out), 23 SHDN (in), 24 C1-, 25 V- (power), 26 C3-, 27 GND (power), 28 C3+
text: D1; D2; D3

## DS14C335MSAX
designator U?
+3.3V Supply TIA/EIA - 232 3X5 Driver/Receiver, 28-pin SSOP-EIAJ; PartNumber: DS14C335MSAX; Manufacturer: National Semiconductor; PackageTopMarking: NSUZXYTTE#*DS14C335*MSA; PowerWise: N; CompType: Interface IC; Published: 1-Mar-2010; DatasheetVersion: Mar-2000; PackageVersion: revC, Oct-2009; PackageReference: MSA28; Publisher: Altium Limited; PackageDescription: Molded SSOP, 5.3mm Body Width, 0.65mm Pitch, EIAJ, Type II, 28 Lead; RoHS: N; PinCount: 28; Code_IPC: SOP65P780-28; ComponentLink1Description: DS14C335 Datasheet; ComponentLink1URL: http://www.national.com/ds/DS/DS14C335.pdf; ComponentLink2Description: DS14C335 Web Page; ComponentLink2URL: http://www.national.com/pf/DS/DS14C335.html; ComponentLink3Description: MSA28 Package Page; ComponentLink3URL: http://www.national.com/packaging/folders/msa28.html
footprint MSA28_N (SOP, 28-Leads, Body 10.2x5.3mm, Pitch 0.65mm, IPC Medium Density)
footprint MSA28_L (SOP, 28-Leads, Body 10.2x5.3mm, Pitch 0.65mm, IPC High Density)
footprint MSA28_M (SOP, 28-Leads, Body 10.2x5.3mm, Pitch 0.65mm, IPC Low Density)
pins: 1 V+ (power), 2 C2+, 3 VCC (power), 4 C2-, 5 GND (power), 6 C1+, 7 DIN (in), 8 DIN (in), 9 DIN (in), 10 ROUT1 (out), 11 ROUT2 (out), 12 ROUT3 (out), 13 ROUT4 (out), 14 ROUT5 (out), 15 RIN5 (in), 16 RIN4 (in), 17 RIN3 (in), 18 RIN2 (in), 19 RIN1 (in), 20 DOUT (out), 21 DOUT (out), 22 DOUT (out), 23 SHDN (in), 24 C1-, 25 V- (power), 26 C3-, 27 GND (power), 28 C3+
text: D1; D2; D3

## DS14C535MSA
designator U?
+5V Supply EIA/TIA-232 3x5 Driver/Receiver, 28-pin SSOP-EIAJ; PartNumber: DS14C535MSA; Manufacturer: National Semiconductor; PackageTopMarking: NSUZXYTTE#*DS14C535*MSA; PowerWise: N; CompType: Interface IC; Published: 4-Dec-2008; DatasheetVersion: May-1998; PackageVersion: revC, Oct-2009; PackageReference: MSA28; Publisher: Altium Limited; PackageDescription: Molded SSOP, 5.3mm Body Width, 0.65mm Pitch, EIAJ, Type II, 28 Lead; RoHS: N; PinCount: 28; Code_IPC: SOP65P780-28; ComponentLink1Description: DS14C535 Datasheet; ComponentLink1URL: http://www.national.com/ds/DS/DS14C535.pdf; ComponentLink2Description: DS14C535 Web Page; ComponentLink2URL: http://www.national.com/pf/DS/DS14C535.html; ComponentLink3Description: MSA28 Package Page; ComponentLink3URL: http://www.national.com/packaging/folders/msa28.html
footprint MSA28_N (SOP, 28-Leads, Body 10.2x5.3mm, Pitch 0.65mm, IPC Medium Density)
footprint MSA28_L (SOP, 28-Leads, Body 10.2x5.3mm, Pitch 0.65mm, IPC High Density)
footprint MSA28_M (SOP, 28-Leads, Body 10.2x5.3mm, Pitch 0.65mm, IPC Low Density)
pins: 1 V+ (power), 2 C1+, 3 VCC (power), 4 C1-, 5 GND (power), 6 NC, 7 DIN (in), 8 DIN (in), 9 DIN (in), 10 ROUT1 (out), 11 ROUT2 (out), 12 ROUT3 (out), 13 ROUT4 (out), 14 ROUT5 (out), 15 RIN5 (in), 16 RIN4 (in), 17 RIN3 (in), 18 RIN2 (in), 19 RIN1 (in), 20 DOUT (out), 21 DOUT (out), 22 DOUT (out), 23 SHDN (in), 24 NC, 25 V- (power), 26 C2-, 27 GND (power), 28 C2+
text: D1; D2; D3

## DS14C535MSAX
designator U?
+5V Supply EIA/TIA-232 3 x 5 Driver Receiver, 28-pin SSOP-EIAJ; PartNumber: DS14C535MSAX; Manufacturer: National Semiconductor; PackageTopMarking: NSUZXYTTE#*DS14C535*MSA; PowerWise: N; CompType: Interface IC; Published: 1-Mar-2010; DatasheetVersion: May-1998; PackageVersion: revC, Oct-2009; PackageReference: MSA28; Publisher: Altium Limited; PackageDescription: Molded SSOP, 5.3mm Body Width, 0.65mm Pitch, EIAJ, Type II, 28 Lead; RoHS: N; PinCount: 28; Code_IPC: SOP65P780-28; ComponentLink1Description: DS14C535 Datasheet; ComponentLink1URL: http://www.national.com/ds/DS/DS14C535.pdf; ComponentLink2Description: DS14C535 Web Page; ComponentLink2URL: http://www.national.com/pf/DS/DS14C535.html; ComponentLink3Description: MSA28 Package Page; ComponentLink3URL: http://www.national.com/packaging/folders/msa28.html
footprint MSA28_N (SOP, 28-Leads, Body 10.2x5.3mm, Pitch 0.65mm, IPC Medium Density)
footprint MSA28_L (SOP, 28-Leads, Body 10.2x5.3mm, Pitch 0.65mm, IPC High Density)
footprint MSA28_M (SOP, 28-Leads, Body 10.2x5.3mm, Pitch 0.65mm, IPC Low Density)
pins: 1 V+ (power), 2 C1+, 3 VCC (power), 4 C1-, 5 GND (power), 6 NC, 7 DIN (in), 8 DIN (in), 9 DIN (in), 10 ROUT1 (out), 11 ROUT2 (out), 12 ROUT3 (out), 13 ROUT4 (out), 14 ROUT5 (out), 15 RIN5 (in), 16 RIN4 (in), 17 RIN3 (in), 18 RIN2 (in), 19 RIN1 (in), 20 DOUT (out), 21 DOUT (out), 22 DOUT (out), 23 SHDN (in), 24 NC, 25 V- (power), 26 C2-, 27 GND (power), 28 C2+
text: D1; D2; D3

## DS15BA101SD
designator U?
1.5 Gbps Differential Buffer with Adjustable Output Voltage, 8-pin LLP; PartNumber: DS15BA101SD; Manufacturer: National Semiconductor; PackageTopMarking: ZXYTT*BA101; PowerWise: N; CompType: Interface IC; Published: 4-Dec-2008; DatasheetVersion: Jan-2009; PackageVersion: revA, Aug-2003; PackageReference: SDA08A; Publisher: Altium Limited; PackageDescription: LLP, Plastic, Dual, 3 x 3 x 0.8mm Body, 8 Lead, 0.5mm Pitch, No Pullback; RoHS: Y; PinCount: 8; ComponentLink1Description: DS15BA101 Datasheet; ComponentLink1URL: http://www.national.com/ds/DS/DS15BA101.pdf; ComponentLink2Description: DS15BA101 Web Page; ComponentLink2URL: http://www.national.com/pf/DS/DS15BA101.html; ComponentLink3Description: SDA08A Package Page; ComponentLink3URL: http://www.national.com/packaging/folders/sda08a.html
footprint SDA08A (SON, 8-Leads, Body 3x3mm, Pitch 0.5mm, NSC Recommended)
pins: 1 IN+ (in), 2 IN- (in), 3 GND  (power), 4 RVO, 5 VCC (power), 6 GND  (power), 7 OUT- (out), 8 OUT+ (out)

## DS15BA101SD/NOPB
designator U?
1.5 Gbps Differential Buffer with Adjustable Output Voltage, 8-pin LLP, Pb-Free; PartNumber: DS15BA101SD/NOPB; Manufacturer: National Semiconductor; PackageTopMarking: ZXYTT*BA101; PowerWise: N; CompType: Interface IC; Published: 1-Mar-2010; DatasheetVersion: Jan-2009; PackageVersion: revA, Aug-2003; PackageReference: SDA08A; Publisher: Altium Limited; PackageDescription: LLP, Plastic, Dual, 3 x 3 x 0.8mm Body, 8 Lead, 0.5mm Pitch, No Pullback; Supplier 1: Digi-Key; Supplier Part Number 1: DS15BA101SDTR-ND; Supplier 2: Digi-Key; Supplier Part Number 2: DS15BA101SDCT-ND; Supplier 3: Digi-Key; Supplier Part Number 3: DS15BA101SDDKR-ND; Supplier 4: Farnell; Supplier Part Number 4: 1685361; RoHS: Y; PinCount: 8; ComponentLink1Description: DS15BA101 Datasheet; ComponentLink1URL: http://www.national.com/ds/DS/DS15BA101.pdf; ComponentLink2Description: DS15BA101 Web Page; ComponentLink2URL: http://www.national.com/pf/DS/DS15BA101.html; ComponentLink3Description: SDA08A Package Page; ComponentLink3URL: http://www.national.com/packaging/folders/sda08a.html
footprint SDA08A (SON, 8-Leads, Body 3x3mm, Pitch 0.5mm, NSC Recommended)
pins: 1 IN+ (in), 2 IN- (in), 3 GND  (power), 4 RVO, 5 VCC (power), 6 GND  (power), 7 OUT- (out), 8 OUT+ (out)

## DS15BA101SDE/NOPB
designator U?
1.5 Gbps Differential Buffer with Adjustable Output Voltage, 8-pin LLP, Pb-Free; PartNumber: DS15BA101SDE/NOPB; Manufacturer: National Semiconductor; PackageTopMarking: ZXYTT*BA101; PowerWise: N; CompType: Interface IC; Published: 1-Mar-2010; DatasheetVersion: Jan-2009; PackageVersion: revA, Aug-2003; PackageReference: SDA08A; Publisher: Altium Limited; PackageDescription: LLP, Plastic, Dual, 3 x 3 x 0.8mm Body, 8 Lead, 0.5mm Pitch, No Pullback; Supplier 1: Digi-Key; Supplier Part Number 1: DS15BA101SDE-ND; RoHS: Y; PinCount: 8; ComponentLink1Description: DS15BA101 Datasheet; ComponentLink1URL: http://www.national.com/ds/DS/DS15BA101.pdf; ComponentLink2Description: DS15BA101 Web Page; ComponentLink2URL: http://www.national.com/pf/DS/DS15BA101.html; ComponentLink3Description: SDA08A Package Page; ComponentLink3URL: http://www.national.com/packaging/folders/sda08a.html
footprint SDA08A (SON, 8-Leads, Body 3x3mm, Pitch 0.5mm, NSC Recommended)
pins: 1 IN+ (in), 2 IN- (in), 3 GND  (power), 4 RVO, 5 VCC (power), 6 GND  (power), 7 OUT- (out), 8 OUT+ (out)

## DS15BA101SDX/NOPB
designator U?
1.5 Gbps Differential Buffer with Adjustable Output Voltage, 8-pin LLP, Pb-Free; PartNumber: DS15BA101SDX/NOPB; Manufacturer: National Semiconductor; PackageTopMarking: ZXYTT*BA101; PowerWise: N; CompType: Interface IC; Published: 1-Mar-2010; DatasheetVersion: Jan-2009; PackageVersion: revA, Aug-2003; PackageReference: SDA08A; Publisher: Altium Limited; PackageDescription: LLP, Plastic, Dual, 3 x 3 x 0.8mm Body, 8 Lead, 0.5mm Pitch, No Pullback; Supplier 1: Digi-Key; Supplier Part Number 1: DS15BA101SDX-ND; RoHS: Y; PinCount: 8; ComponentLink1Description: DS15BA101 Datasheet; ComponentLink1URL: http://www.national.com/ds/DS/DS15BA101.pdf; ComponentLink2Description: DS15BA101 Web Page; ComponentLink2URL: http://www.national.com/pf/DS/DS15BA101.html; ComponentLink3Description: SDA08A Package Page; ComponentLink3URL: http://www.national.com/packaging/folders/sda08a.html
footprint SDA08A (SON, 8-Leads, Body 3x3mm, Pitch 0.5mm, NSC Recommended)
pins: 1 IN+ (in), 2 IN- (in), 3 GND  (power), 4 RVO, 5 VCC (power), 6 GND  (power), 7 OUT- (out), 8 OUT+ (out)

## DS15BR400TSQ
designator U?
Four-Channel LVDS Repeaters with Pre-Emphasis, 32-pin LLP; PartNumber: DS15BR400TSQ; Manufacturer: National Semiconductor; PackageTopMarking: NS*UZXYTT*5R400SQ; PowerWise: N; CompType: Interface IC; Published: 4-Dec-2008; DatasheetVersion: May-2007; PackageVersion: revB, Oct-2009; PackageReference: SQA32A; Publisher: Altium Limited; PackageDescription: LLP, Quad, 5 x 5 x 0.8mm, 32 Lead, 0.5mm Pitch, No Pullback 3.1 x 3.1 Exposed Pad; RoHS: N; PinCount: 32; ComponentLink1Description: DS15BR400 Datasheet; ComponentLink1URL: http://www.national.com/ds/DS/DS15BR400.pdf; ComponentLink2Description: DS15BR400 Web Page; ComponentLink2URL: http://www.national.com/pf/DS/DS15BR400.html; ComponentLink3Description: SQA32A Package Page; ComponentLink3URL: http://www.national.com/packaging/folders/sqa32a.html
footprint SQA32A (QFN, 32-Leads, Body 5x5mm, Pitch 0.5mm, NSC Recommended)
pins: 1 NC, 2 PEM (in), 3 VDD (power), 4 VDD (power), 5 GND (power), 6 VDD (power), 7 VDD (power), 8 ~{PWDN} (in), 9 IN0+ (in), 10 IN0- (in), 11 IN1+ (in), 12 IN1- (in), 13 IN2+ (in), 14 IN2- (in), 15 IN3+ (in), 16 IN3- (in), 17 NC, 18 NC, 19 NC, 20 VDD (power), 21 VDD (power), 22 NC, 23 NC, 24 NC, 25 OUT3- (out), 26 OUT3+ (out), 27 OUT2- (out), 28 OUT2+ (out), 29 OUT1- (out), 30 OUT1+ (out), 31 OUT0- (out), 32 OUT0+ (out), 33 GND (power)

## DS15BR400TSQ/NOPB
designator U?
Four-Channel LVDS Repeaters with Pre-Emphasis, 32-pin LLP, Pb-Free; PartNumber: DS15BR400TSQ/NOPB; Manufacturer: National Semiconductor; PackageTopMarking: NS*UZXYTT*5R400SQ; PowerWise: N; CompType: Interface IC; Published: 1-Mar-2010; DatasheetVersion: May-2007; PackageVersion: revB, Oct-2009; PackageReference: SQA32A; Publisher: Altium Limited; PackageDescription: LLP, Quad, 5 x 5 x 0.8mm, 32 Lead, 0.5mm Pitch, No Pullback 3.1 x 3.1 Exposed Pad; Supplier 1: Digi-Key; Supplier Part Number 1: DS15BR400TSQTR-ND; Supplier 2: Digi-Key; Supplier Part Number 2: DS15BR400TSQCT-ND; Supplier 3: Digi-Key; Supplier Part Number 3: DS15BR400TSQDKR-ND; RoHS: Y; PinCount: 32; ComponentLink1Description: DS15BR400 Datasheet; ComponentLink1URL: http://www.national.com/ds/DS/DS15BR400.pdf; ComponentLink2Description: DS15BR400 Web Page; ComponentLink2URL: http://www.national.com/pf/DS/DS15BR400.html; ComponentLink3Description: SQA32A Package Page; ComponentLink3URL: http://www.national.com/packaging/folders/sqa32a.html
footprint SQA32A (QFN, 32-Leads, Body 5x5mm, Pitch 0.5mm, NSC Recommended)
pins: 1 NC, 2 PEM (in), 3 VDD (power), 4 VDD (power), 5 GND (power), 6 VDD (power), 7 VDD (power), 8 ~{PWDN} (in), 9 IN0+ (in), 10 IN0- (in), 11 IN1+ (in), 12 IN1- (in), 13 IN2+ (in), 14 IN2- (in), 15 IN3+ (in), 16 IN3- (in), 17 NC, 18 NC, 19 NC, 20 VDD (power), 21 VDD (power), 22 NC, 23 NC, 24 NC, 25 OUT3- (out), 26 OUT3+ (out), 27 OUT2- (out), 28 OUT2+ (out), 29 OUT1- (out), 30 OUT1+ (out), 31 OUT0- (out), 32 OUT0+ (out), 33 GND (power)

## DS15BR400TSQX
designator U?
Four-Channel LVDS Repeaters with Pre-Emphasis, 32-pin LLP; PartNumber: DS15BR400TSQX; Manufacturer: National Semiconductor; PackageTopMarking: NS*UZXYTT*5R400SQ; PowerWise: N; CompType: Interface IC; Published: 1-Mar-2010; DatasheetVersion: May-2007; PackageVersion: revB, Oct-2009; PackageReference: SQA32A; Publisher: Altium Limited; PackageDescription: LLP, Quad, 5 x 5 x 0.8mm, 32 Lead, 0.5mm Pitch, No Pullback 3.1 x 3.1 Exposed Pad; RoHS: N; PinCount: 32; ComponentLink1Description: DS15BR400 Datasheet; ComponentLink1URL: http://www.national.com/ds/DS/DS15BR400.pdf; ComponentLink2Description: DS15BR400 Web Page; ComponentLink2URL: http://www.national.com/pf/DS/DS15BR400.html; ComponentLink3Description: SQA32A Package Page; ComponentLink3URL: http://www.national.com/packaging/folders/sqa32a.html
footprint SQA32A (QFN, 32-Leads, Body 5x5mm, Pitch 0.5mm, NSC Recommended)
pins: 1 NC, 2 PEM (in), 3 VDD (power), 4 VDD (power), 5 GND (power), 6 VDD (power), 7 VDD (power), 8 ~{PWDN} (in), 9 IN0+ (in), 10 IN0- (in), 11 IN1+ (in), 12 IN1- (in), 13 IN2+ (in), 14 IN2- (in), 15 IN3+ (in), 16 IN3- (in), 17 NC, 18 NC, 19 NC, 20 VDD (power), 21 VDD (power), 22 NC, 23 NC, 24 NC, 25 OUT3- (out), 26 OUT3+ (out), 27 OUT2- (out), 28 OUT2+ (out), 29 OUT1- (out), 30 OUT1+ (out), 31 OUT0- (out), 32 OUT0+ (out), 33 GND (power)

## DS15BR400TSQX/NOPB
designator U?
Four-Channel LVDS Repeaters with Pre-Emphasis, 32-pin LLP, Pb-Free; PartNumber: DS15BR400TSQX/NOPB; Manufacturer: National Semiconductor; PackageTopMarking: NS*UZXYTT*5R400SQ; PowerWise: N; CompType: Interface IC; Published: 1-Mar-2010; DatasheetVersion: May-2007; PackageVersion: revB, Oct-2009; PackageReference: SQA32A; Publisher: Altium Limited; PackageDescription: LLP, Quad, 5 x 5 x 0.8mm, 32 Lead, 0.5mm Pitch, No Pullback 3.1 x 3.1 Exposed Pad; Supplier 1: Digi-Key; Supplier Part Number 1: DS15BR400TSQX-ND; RoHS: Y; PinCount: 32; ComponentLink1Description: DS15BR400 Datasheet; ComponentLink1URL: http://www.national.com/ds/DS/DS15BR400.pdf; ComponentLink2Description: DS15BR400 Web Page; ComponentLink2URL: http://www.national.com/pf/DS/DS15BR400.html; ComponentLink3Description: SQA32A Package Page; ComponentLink3URL: http://www.national.com/packaging/folders/sqa32a.html
footprint SQA32A (QFN, 32-Leads, Body 5x5mm, Pitch 0.5mm, NSC Recommended)
pins: 1 NC, 2 PEM (in), 3 VDD (power), 4 VDD (power), 5 GND (power), 6 VDD (power), 7 VDD (power), 8 ~{PWDN} (in), 9 IN0+ (in), 10 IN0- (in), 11 IN1+ (in), 12 IN1- (in), 13 IN2+ (in), 14 IN2- (in), 15 IN3+ (in), 16 IN3- (in), 17 NC, 18 NC, 19 NC, 20 VDD (power), 21 VDD (power), 22 NC, 23 NC, 24 NC, 25 OUT3- (out), 26 OUT3+ (out), 27 OUT2- (out), 28 OUT2+ (out), 29 OUT1- (out), 30 OUT1+ (out), 31 OUT0- (out), 32 OUT0+ (out), 33 GND (power)

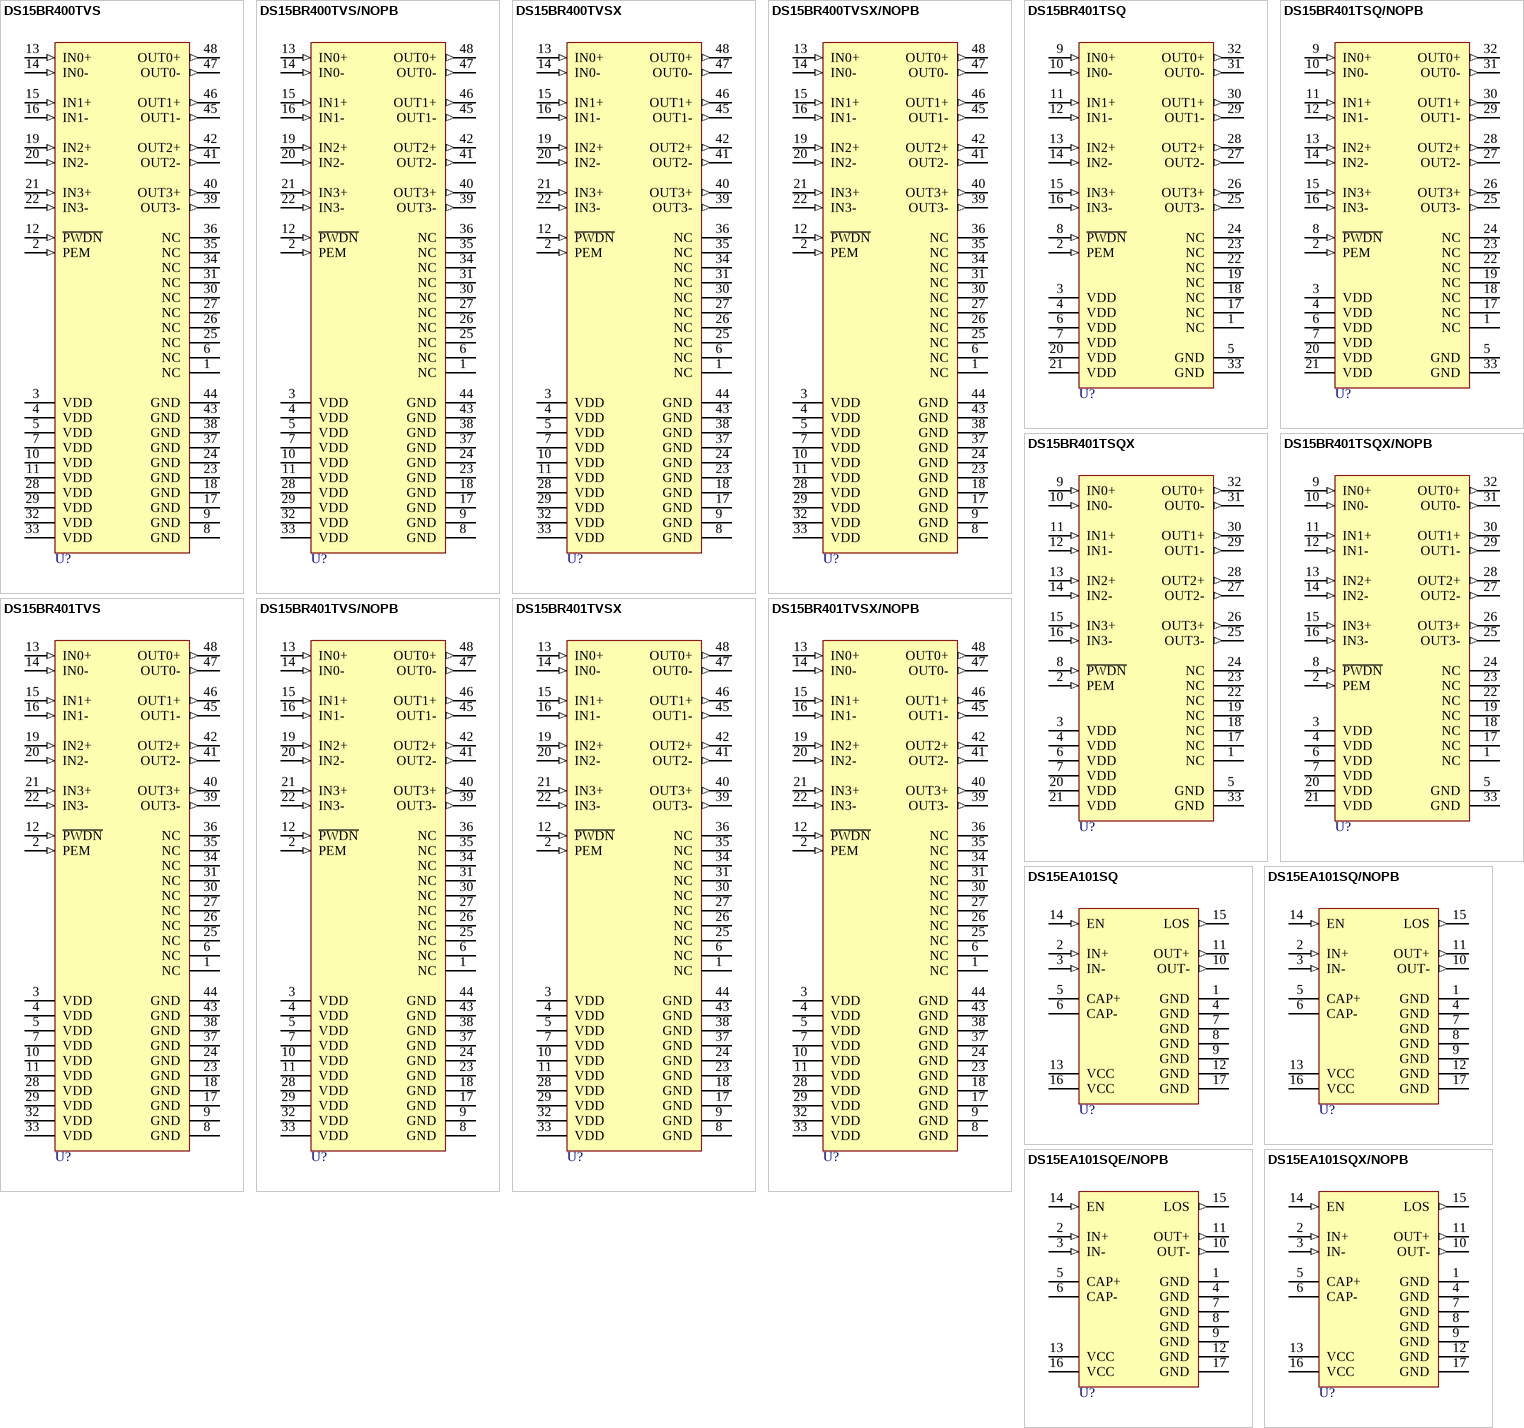
[diagram p14: symbols DS15BR400TVS to DS15EA101SQX/NOPB]